# EAGLE library part BOB (library libliblib)
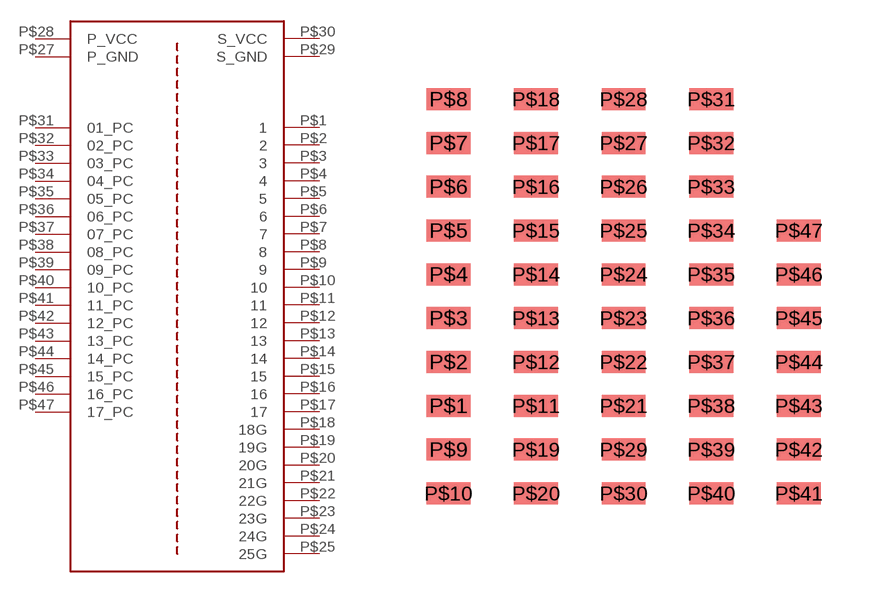
[diagram p1: symbol with the pads of BOB; footprint BOB]

Designator prefix -

## BOB  [BOB]
P$1  1
P$2  2
P$3  3
P$4  4
P$5  5
P$6  6
P$7  7
P$8  8
P$9  9
P$10  10
P$11  11
P$12  12
P$13  13
P$14  14
P$15  15
P$16  16
P$17  17
P$18  18G
P$19  19G
P$20  20G
P$21  21G
P$22  22G
P$23  23G
P$24  24G
P$25  25G
P$27  P_GND
P$28  P_VCC
P$29  S_GND
P$30  S_VCC
P$31  01_PC
P$32  02_PC
P$33  03_PC
P$34  04_PC
P$35  05_PC
P$36  06_PC
P$37  07_PC
P$38  08_PC
P$39  09_PC
P$40  10_PC
P$41  11_PC
P$42  12_PC
P$43  13_PC
P$44  14_PC
P$45  15_PC
P$46  16_PC
P$47  17_PC

## Footprint BOB (pad centres in mm)
smd 1.27 x 0.635: P$1 -5.08,3.81; P$2 -5.08,5.08; P$3 -5.08,6.35; P$4 -5.08,7.62; P$5 -5.08,8.89; P$6 -5.08,10.16; P$7 -5.08,11.43; P$8 -5.08,12.7; P$9 -5.08,2.54; P$10 -5.08,1.27; P$11 -2.54,3.81; P$12 -2.54,5.08; P$13 -2.54,6.35; P$14 -2.54,7.62; P$15 -2.54,8.89; P$16 -2.54,10.16; P$17 -2.54,11.43; P$18 -2.54,12.7; P$19 -2.54,2.54; P$20 -2.54,1.27; P$21 0,3.81; P$22 0,5.08; P$23 0,6.35; P$24 0,7.62; P$25 0,8.89; P$26 0,10.16; P$27 0,11.43; P$28 0,12.7; P$29 0,2.54; P$30 0,1.27; P$31 2.54,12.7; P$32 2.54,11.43; P$33 2.54,10.16; P$34 2.54,8.89; P$35 2.54,7.62; P$36 2.54,6.35; P$37 2.54,5.08; P$38 2.54,3.81; P$39 2.54,2.54; P$40 2.54,1.27; P$41 5.08,1.27; P$42 5.08,2.54; P$43 5.08,3.81; P$44 5.08,5.08; P$45 5.08,6.35; P$46 5.08,7.62; P$47 5.08,8.89